# Altium integrated library TI Amplifiers and Linear Operational Amplifier High Speed.IntLib: 1100 symbols (part 5 of 44)
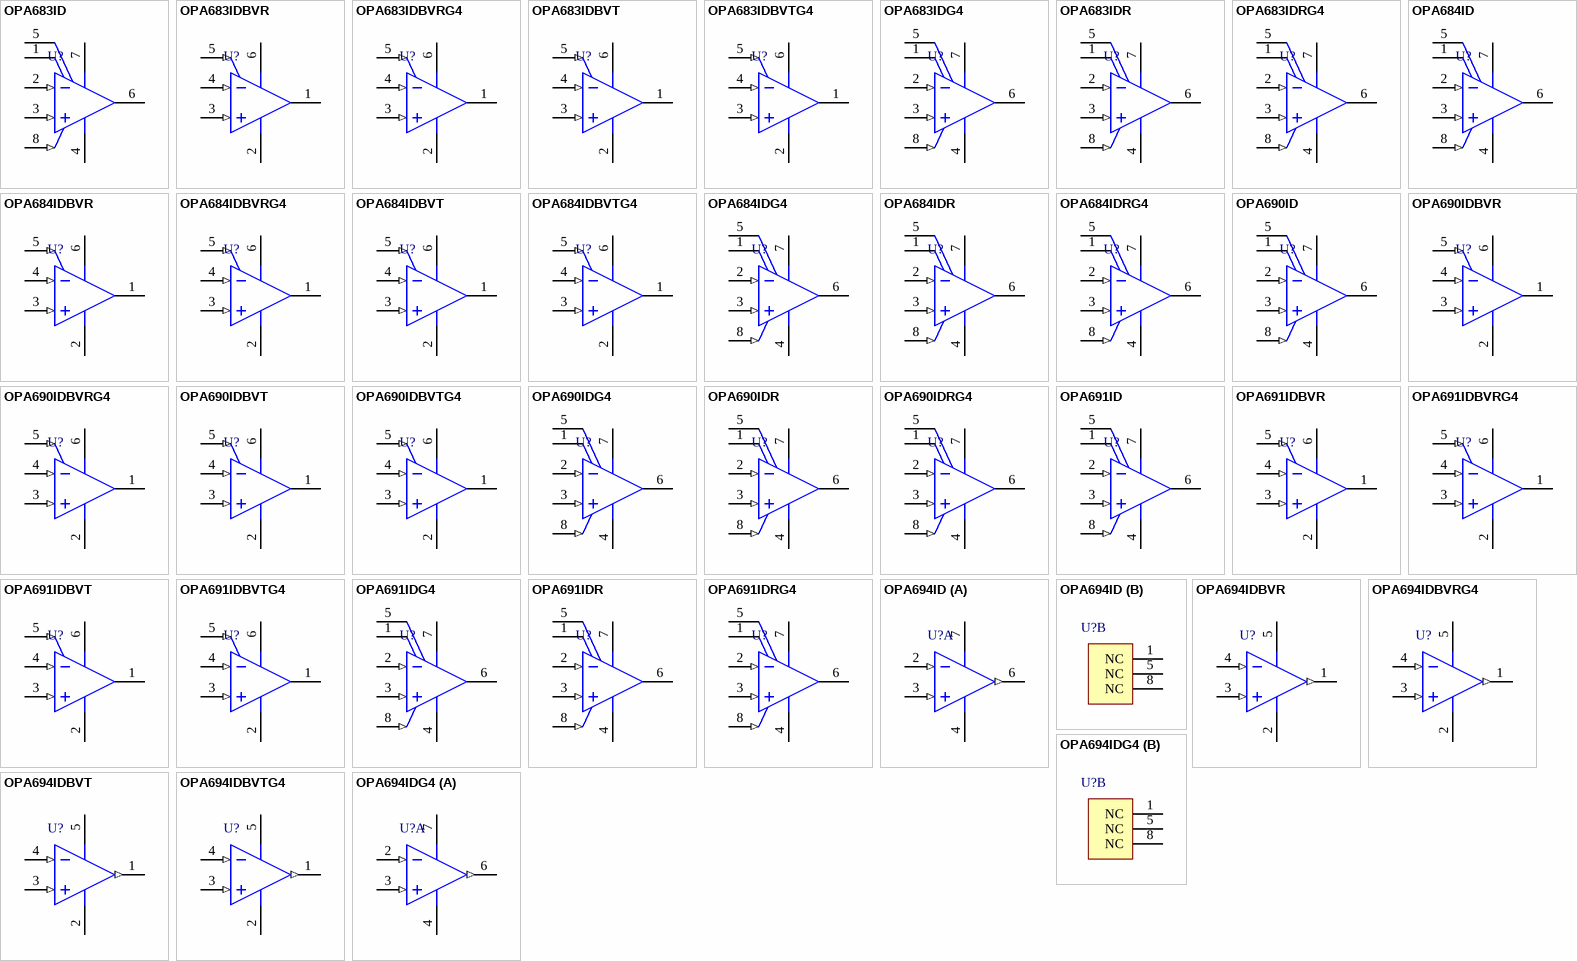
[diagram p55: symbols OPA683ID to OPA694IDG4]

## OPA690IDRG4
designator U?
Wideband, Voltage Feedback Operational Amplifier with Disable, 5 to 12 V, -40 to 85 degC, 8-pin SOIC (D8), Green (RoHS & no Sb/Br); Manufacturer: Texas Instruments; PartNumber: OPA690IDRG4; 2nd Harmonic(dBc): 77; 3rd Harmonic(dBc): 81; @ MHz: 5; Acl, min stable gain(V/V): 1; BW @ Acl(MHz): 500; Diff Gain(%): 0.06; Diff Phase(deg): 0.03; Iib(Max)(nA): 11000; Io(Typ)(mA): 190; Iq per channel(Max)(mA): 6.2; Settling Time (0.1%)(Typ)(ns): 8; Slew Rate(Typ)(V/us): 1800; Sub Family: High Output Current Amplifier (>=50mA), High Speed Amplifier (>=50MHz); THD (Fc is 1 MHz)(Typ)(dB): -80; Vio(Max)(mV): 4.5; Vs(Max)(V): 12; DatasheetVersion: SBOS223F; PackageVersion: 4040047-3/M, 06/2011; PackageReference: D8; PackageDescription: 8-Pin Plastic Small Outline, Body 4.9 x 3.9 mm, Pitch 1.27 mm; Supplier 1: Digi-Key; Supplier Part Number 1: OPA690IDRG4-ND; Supplier 2: Newark; Supplier Part Number 2: 67K8229; Supplier 3: Mouser; Supplier Part Number 3: 595-OPA690IDRG4; Eco-Plan: Green (RoHS & no Sb/Br); Number of Channels: 1; Vn at Flatband(Typ)(nV/rtHz): 4.5; Vs(Min)(V): 5; Mounting Technology: Surface Mount; Code_JEDEC: MS-012; ComponentLink1Description: Manufacturer URL; ComponentLink1URL: http://www.ti.com/; ComponentLink2Description: Datasheet; ComponentLink2URL: http://www.ti.com/general/docs/lit/getliterature.tsp?genericPartNumber=OPA690&fileType=pdf; ComponentLink3Description: Package Specification; ComponentLink3URL: http://www.ti.com/litv/pdf/msoi002j
footprint TI-D8_N (SOIC, 8-Leads, Body 4.9x3.9mm, Pitch 1.27mm, IPC Medium Density)
footprint TI-D8_L (SOIC, 8-Leads, Body 4.9x3.9mm, Pitch 1.27mm, IPC High Density)
footprint TI-D8_M (SOIC, 8-Leads, Body 4.9x3.9mm, Pitch 1.27mm, IPC Low Density)
pins: 1 NC, 2 IN- (in), 3 IN+ (in), 4 VS- (power), 5 NC, 6 OUT (hiz), 7 VS+ (power), 8 ~{DIS} (in)

## OPA691ID
designator U?
Wideband Current Feedback Operational Amplifier with Disable, 5 to 12 V, -40 to 85 degC, 8-pin SOIC (D8), Green (RoHS & no Sb/Br); Manufacturer: Texas Instruments; PartNumber: OPA691ID; 2nd Harmonic(dBc): 79; 3rd Harmonic(dBc): 93; @ MHz: 5; Acl, min stable gain(V/V): 1; BW @ Acl(MHz): 280; Diff Gain(%): 0.07; Diff Phase(deg): 0.02; Iib(Max)(nA): 45000; Io(Typ)(mA): 190; Iq per channel(Max)(mA): 4.5; Settling Time (0.1%)(Typ)(ns): 8; Slew Rate(Typ)(V/us): 2100; Sub Family: High Output Current Amplifier (>=50mA), High Speed Amplifier (>=50MHz); THD (Fc is 1 MHz)(Typ)(dB): -80; Vio(Max)(mV): 2.5; Vn at Flatband(Typ)(nV/rtHz): 1.7; Vs(Max)(V): 12; DatasheetVersion: SBOS226D; PackageVersion: 4040047-3/M, 06/2011; PackageReference: D8; PackageDescription: 8-Pin Plastic Small Outline, Body 4.9 x 3.9 mm, Pitch 1.27 mm; Supplier 1: Digi-Key; Supplier Part Number 1: OPA691ID-ND; Supplier 2: Newark; Supplier Part Number 2: 75C5194; Supplier 3: Mouser; Supplier Part Number 3: 595-OPA691ID; Eco-Plan: Green (RoHS & no Sb/Br); Number of Channels: 1; Vs(Min)(V): 5; Mounting Technology: Surface Mount; Code_JEDEC: MS-012; ComponentLink1Description: Manufacturer URL; ComponentLink1URL: http://www.ti.com/; ComponentLink2Description: Datasheet; ComponentLink2URL: http://www.ti.com/general/docs/lit/getliterature.tsp?genericPartNumber=OPA691&fileType=pdf; ComponentLink3Description: Package Specification; ComponentLink3URL: http://www.ti.com/litv/pdf/msoi002j
footprint TI-D8_N (SOIC, 8-Leads, Body 4.9x3.9mm, Pitch 1.27mm, IPC Medium Density)
footprint TI-D8_L (SOIC, 8-Leads, Body 4.9x3.9mm, Pitch 1.27mm, IPC High Density)
footprint TI-D8_M (SOIC, 8-Leads, Body 4.9x3.9mm, Pitch 1.27mm, IPC Low Density)
pins: 1 NC, 2 IN- (in), 3 IN+ (in), 4 VS- (power), 5 NC, 6 OUT (hiz), 7 VS+ (power), 8 ~{DIS} (in)

## OPA691IDBVR
designator U?
Wideband Current Feedback Operational Amplifier with Disable, 5 to 12 V, -40 to 85 degC, 6-pin SOT23 (DBV6), Green (RoHS & no Sb/Br); Manufacturer: Texas Instruments; PartNumber: OPA691IDBVR; 2nd Harmonic(dBc): 79; 3rd Harmonic(dBc): 93; @ MHz: 5; Acl, min stable gain(V/V): 1; BW @ Acl(MHz): 280; Diff Gain(%): 0.07; Diff Phase(deg): 0.02; Iib(Max)(nA): 45000; Io(Typ)(mA): 190; Iq per channel(Max)(mA): 4.5; Settling Time (0.1%)(Typ)(ns): 8; Slew Rate(Typ)(V/us): 2100; Sub Family: High Output Current Amplifier (>=50mA), High Speed Amplifier (>=50MHz); THD (Fc is 1 MHz)(Typ)(dB): -80; Vio(Max)(mV): 2.5; Vn at Flatband(Typ)(nV/rtHz): 1.7; Vs(Max)(V): 12; DatasheetVersion: SBOS226D; PackageVersion: 4073253-5/K, 03/2006; PackageReference: DBV6; PackageDescription: 6-Pin Plastic Small Outline, Body 1.6 x 2.9 mm, Pitch 0.95 mm; Supplier 1: Digi-Key; Supplier Part Number 1: OPA691IDBVR-ND; Supplier 2: Newark; Supplier Part Number 2: 75C5195; Supplier 3: Mouser; Supplier Part Number 3: 595-OPA691IDBVR; Eco-Plan: Green (RoHS & no Sb/Br); Number of Channels: 1; Vs(Min)(V): 5; Mounting Technology: Surface Mount; Code_JEDEC: MO-178; ComponentLink1Description: Manufacturer URL; ComponentLink1URL: http://www.ti.com/; ComponentLink2Description: Datasheet; ComponentLink2URL: http://www.ti.com/general/docs/lit/getliterature.tsp?genericPartNumber=OPA691&fileType=pdf; ComponentLink3Description: Package Specification; ComponentLink3URL: http://www.ti.com/litv/pdf/mpds026h
footprint TI-DBV6_N (SOT23, 6-Leads, Body 2.9x1.6mm, Pitch 0.95mm, IPC Medium Density)
footprint TI-DBV6_L (SOT23, 6-Leads, Body 2.9x1.6mm, Pitch 0.95mm, IPC High Density)
footprint TI-DBV6_M (SOT23, 6-Leads, Body 2.9x1.6mm, Pitch 0.95mm, IPC Low Density)
pins: 1 OUT (hiz), 2 VS- (power), 3 IN+ (in), 4 IN- (in), 5 ~{DIS} (in), 6 VS+ (power)

## OPA691IDBVRG4
designator U?
Wideband Current Feedback Operational Amplifier with Disable, 5 to 12 V, -40 to 85 degC, 6-pin SOT23 (DBV6), Green (RoHS & no Sb/Br); Manufacturer: Texas Instruments; PartNumber: OPA691IDBVRG4; 2nd Harmonic(dBc): 79; 3rd Harmonic(dBc): 93; @ MHz: 5; Acl, min stable gain(V/V): 1; BW @ Acl(MHz): 280; Diff Gain(%): 0.07; Diff Phase(deg): 0.02; Iib(Max)(nA): 45000; Io(Typ)(mA): 190; Iq per channel(Max)(mA): 4.5; Settling Time (0.1%)(Typ)(ns): 8; Slew Rate(Typ)(V/us): 2100; Sub Family: High Output Current Amplifier (>=50mA), High Speed Amplifier (>=50MHz); THD (Fc is 1 MHz)(Typ)(dB): -80; Vio(Max)(mV): 2.5; Vn at Flatband(Typ)(nV/rtHz): 1.7; Vs(Max)(V): 12; DatasheetVersion: SBOS226D; PackageVersion: 4073253-5/K, 03/2006; PackageReference: DBV6; PackageDescription: 6-Pin Plastic Small Outline, Body 1.6 x 2.9 mm, Pitch 0.95 mm; Supplier 1: Digi-Key; Supplier Part Number 1: OPA691IDBVRG4-ND; Supplier 2: Mouser; Supplier Part Number 2: 595-OPA691IDBVRG4; Eco-Plan: Green (RoHS & no Sb/Br); Number of Channels: 1; Vs(Min)(V): 5; Mounting Technology: Surface Mount; Code_JEDEC: MO-178; ComponentLink1Description: Manufacturer URL; ComponentLink1URL: http://www.ti.com/; ComponentLink2Description: Datasheet; ComponentLink2URL: http://www.ti.com/general/docs/lit/getliterature.tsp?genericPartNumber=OPA691&fileType=pdf; ComponentLink3Description: Package Specification; ComponentLink3URL: http://www.ti.com/litv/pdf/mpds026h
footprint TI-DBV6_N (SOT23, 6-Leads, Body 2.9x1.6mm, Pitch 0.95mm, IPC Medium Density)
footprint TI-DBV6_L (SOT23, 6-Leads, Body 2.9x1.6mm, Pitch 0.95mm, IPC High Density)
footprint TI-DBV6_M (SOT23, 6-Leads, Body 2.9x1.6mm, Pitch 0.95mm, IPC Low Density)
pins: 1 OUT (hiz), 2 VS- (power), 3 IN+ (in), 4 IN- (in), 5 ~{DIS} (in), 6 VS+ (power)

## OPA691IDBVT
designator U?
Wideband Current Feedback Operational Amplifier with Disable, 5 to 12 V, -40 to 85 degC, 6-pin SOT23 (DBV6), Green (RoHS & no Sb/Br); Manufacturer: Texas Instruments; PartNumber: OPA691IDBVT; 2nd Harmonic(dBc): 79; 3rd Harmonic(dBc): 93; @ MHz: 5; Acl, min stable gain(V/V): 1; BW @ Acl(MHz): 280; Diff Gain(%): 0.07; Diff Phase(deg): 0.02; Iib(Max)(nA): 45000; Io(Typ)(mA): 190; Iq per channel(Max)(mA): 4.5; Settling Time (0.1%)(Typ)(ns): 8; Slew Rate(Typ)(V/us): 2100; Sub Family: High Output Current Amplifier (>=50mA), High Speed Amplifier (>=50MHz); THD (Fc is 1 MHz)(Typ)(dB): -80; Vio(Max)(mV): 2.5; Vn at Flatband(Typ)(nV/rtHz): 1.7; Vs(Max)(V): 12; DatasheetVersion: SBOS226D; PackageVersion: 4073253-5/K, 03/2006; PackageReference: DBV6; PackageDescription: 6-Pin Plastic Small Outline, Body 1.6 x 2.9 mm, Pitch 0.95 mm; Supplier 1: Digi-Key; Supplier Part Number 1: OPA691IDBVTTR-ND; Supplier 2: Digi-Key; Supplier Part Number 2: OPA691IDBVTCT-ND; Supplier 3: Digi-Key; Supplier Part Number 3: OPA691IDBVTDKR-ND; Supplier 4: Newark; Supplier Part Number 4: 75C5196; Supplier 5: Mouser; Supplier Part Number 5: 595-OPA691IDBVT; Eco-Plan: Green (RoHS & no Sb/Br); Number of Channels: 1; Vs(Min)(V): 5; Mounting Technology: Surface Mount; Code_JEDEC: MO-178; ComponentLink1Description: Manufacturer URL; ComponentLink1URL: http://www.ti.com/; ComponentLink2Description: Datasheet; ComponentLink2URL: http://www.ti.com/general/docs/lit/getliterature.tsp?genericPartNumber=OPA691&fileType=pdf; ComponentLink3Description: Package Specification; ComponentLink3URL: http://www.ti.com/litv/pdf/mpds026h
footprint TI-DBV6_N (SOT23, 6-Leads, Body 2.9x1.6mm, Pitch 0.95mm, IPC Medium Density)
footprint TI-DBV6_L (SOT23, 6-Leads, Body 2.9x1.6mm, Pitch 0.95mm, IPC High Density)
footprint TI-DBV6_M (SOT23, 6-Leads, Body 2.9x1.6mm, Pitch 0.95mm, IPC Low Density)
pins: 1 OUT (hiz), 2 VS- (power), 3 IN+ (in), 4 IN- (in), 5 ~{DIS} (in), 6 VS+ (power)

## OPA691IDBVTG4
designator U?
Wideband Current Feedback Operational Amplifier with Disable, 5 to 12 V, -40 to 85 degC, 6-pin SOT23 (DBV6), Green (RoHS & no Sb/Br); Manufacturer: Texas Instruments; PartNumber: OPA691IDBVTG4; 2nd Harmonic(dBc): 79; 3rd Harmonic(dBc): 93; @ MHz: 5; Acl, min stable gain(V/V): 1; BW @ Acl(MHz): 280; Diff Gain(%): 0.07; Diff Phase(deg): 0.02; Iib(Max)(nA): 45000; Io(Typ)(mA): 190; Iq per channel(Max)(mA): 5.7; Settling Time (0.1%)(Typ)(ns): 8; Slew Rate(Typ)(V/us): 2100; Sub Family: High Output Current Amplifier (>=50mA), High Speed Amplifier (>=50MHz); THD (Fc is 1 MHz)(Typ)(dB): -80; Vio(Max)(mV): 3.9; Vn at Flatband(Typ)(nV/rtHz): 3.1; Vs(Max)(V): 12; DatasheetVersion: SBOS226D; PackageVersion: 4073253-5/K, 03/2006; PackageReference: DBV6; PackageDescription: 6-Pin Plastic Small Outline, Body 1.6 x 2.9 mm, Pitch 0.95 mm; Supplier 1: Digi-Key; Supplier Part Number 1: OPA691IDBVTG4-ND; Supplier 2: Farnell; Supplier Part Number 2: 1207071; Supplier 3: Newark; Supplier Part Number 3: 97K6858; Supplier 4: Mouser; Supplier Part Number 4: 595-OPA691IDBVTG4; Eco-Plan: Green (RoHS & no Sb/Br); Number of Channels: 1; Vs(Min)(V): 5; Mounting Technology: Surface Mount; Code_JEDEC: MO-178; ComponentLink1Description: Manufacturer URL; ComponentLink1URL: http://www.ti.com/; ComponentLink2Description: Datasheet; ComponentLink2URL: http://www.ti.com/general/docs/lit/getliterature.tsp?genericPartNumber=OPA691&fileType=pdf; ComponentLink3Description: Package Specification; ComponentLink3URL: http://www.ti.com/litv/pdf/mpds026h
footprint TI-DBV6_N (SOT23, 6-Leads, Body 2.9x1.6mm, Pitch 0.95mm, IPC Medium Density)
footprint TI-DBV6_L (SOT23, 6-Leads, Body 2.9x1.6mm, Pitch 0.95mm, IPC High Density)
footprint TI-DBV6_M (SOT23, 6-Leads, Body 2.9x1.6mm, Pitch 0.95mm, IPC Low Density)
pins: 1 OUT (hiz), 2 VS- (power), 3 IN+ (in), 4 IN- (in), 5 ~{DIS} (in), 6 VS+ (power)

## OPA691IDG4
designator U?
Wideband Current Feedback Operational Amplifier with Disable, 5 to 12 V, -40 to 85 degC, 8-pin SOIC (D8), Green (RoHS & no Sb/Br); Manufacturer: Texas Instruments; PartNumber: OPA691IDG4; 2nd Harmonic(dBc): 79; 3rd Harmonic(dBc): 93; @ MHz: 5; Acl, min stable gain(V/V): 1; BW @ Acl(MHz): 280; Diff Gain(%): 0.07; Diff Phase(deg): 0.02; Iib(Max)(nA): 45000; Io(Typ)(mA): 190; Iq per channel(Max)(mA): 4.5; Settling Time (0.1%)(Typ)(ns): 8; Slew Rate(Typ)(V/us): 2100; Sub Family: High Output Current Amplifier (>=50mA), High Speed Amplifier (>=50MHz); THD (Fc is 1 MHz)(Typ)(dB): -80; Vio(Max)(mV): 2.5; Vn at Flatband(Typ)(nV/rtHz): 1.7; Vs(Max)(V): 12; DatasheetVersion: SBOS226D; PackageVersion: 4040047-3/M, 06/2011; PackageReference: D8; PackageDescription: 8-Pin Plastic Small Outline, Body 4.9 x 3.9 mm, Pitch 1.27 mm; Supplier 1: Digi-Key; Supplier Part Number 1: OPA691IDG4-ND; Supplier 2: Farnell; Supplier Part Number 2: 1207070; Supplier 3: Newark; Supplier Part Number 3: 97K6859; Supplier 4: Mouser; Supplier Part Number 4: 595-OPA691IDG4; Eco-Plan: Green (RoHS & no Sb/Br); Number of Channels: 1; Vs(Min)(V): 5; Mounting Technology: Surface Mount; Code_JEDEC: MS-012; ComponentLink1Description: Manufacturer URL; ComponentLink1URL: http://www.ti.com/; ComponentLink2Description: Datasheet; ComponentLink2URL: http://www.ti.com/general/docs/lit/getliterature.tsp?genericPartNumber=OPA691&fileType=pdf; ComponentLink3Description: Package Specification; ComponentLink3URL: http://www.ti.com/litv/pdf/msoi002j
footprint TI-D8_N (SOIC, 8-Leads, Body 4.9x3.9mm, Pitch 1.27mm, IPC Medium Density)
footprint TI-D8_L (SOIC, 8-Leads, Body 4.9x3.9mm, Pitch 1.27mm, IPC High Density)
footprint TI-D8_M (SOIC, 8-Leads, Body 4.9x3.9mm, Pitch 1.27mm, IPC Low Density)
pins: 1 NC, 2 IN- (in), 3 IN+ (in), 4 VS- (power), 5 NC, 6 OUT (hiz), 7 VS+ (power), 8 ~{DIS} (in)

## OPA691IDR
designator U?
Wideband Current Feedback Operational Amplifier with Disable, 5 to 12 V, -40 to 85 degC, 8-pin SOIC (D8), Green (RoHS & no Sb/Br); Manufacturer: Texas Instruments; PartNumber: OPA691IDR; 2nd Harmonic(dBc): 79; 3rd Harmonic(dBc): 93; @ MHz: 5; Acl, min stable gain(V/V): 1; BW @ Acl(MHz): 280; Diff Gain(%): 0.07; Diff Phase(deg): 0.02; Iib(Max)(nA): 45000; Io(Typ)(mA): 190; Iq per channel(Max)(mA): 4.5; Settling Time (0.1%)(Typ)(ns): 8; Slew Rate(Typ)(V/us): 2100; Sub Family: High Output Current Amplifier (>=50mA), High Speed Amplifier (>=50MHz); THD (Fc is 1 MHz)(Typ)(dB): -80; Vio(Max)(mV): 2.5; Vn at Flatband(Typ)(nV/rtHz): 1.7; Vs(Max)(V): 12; DatasheetVersion: SBOS226D; PackageVersion: 4040047-3/M, 06/2011; PackageReference: D8; PackageDescription: 8-Pin Plastic Small Outline, Body 4.9 x 3.9 mm, Pitch 1.27 mm; Supplier 1: Digi-Key; Supplier Part Number 1: OPA691IDR-ND; Supplier 2: Mouser; Supplier Part Number 2: 595-OPA691IDR; Eco-Plan: Green (RoHS & no Sb/Br); Number of Channels: 1; Vs(Min)(V): 5; Mounting Technology: Surface Mount; Code_JEDEC: MS-012; ComponentLink1Description: Manufacturer URL; ComponentLink1URL: http://www.ti.com/; ComponentLink2Description: Datasheet; ComponentLink2URL: http://www.ti.com/general/docs/lit/getliterature.tsp?genericPartNumber=OPA691&fileType=pdf; ComponentLink3Description: Package Specification; ComponentLink3URL: http://www.ti.com/litv/pdf/msoi002j
footprint TI-D8_N (SOIC, 8-Leads, Body 4.9x3.9mm, Pitch 1.27mm, IPC Medium Density)
footprint TI-D8_L (SOIC, 8-Leads, Body 4.9x3.9mm, Pitch 1.27mm, IPC High Density)
footprint TI-D8_M (SOIC, 8-Leads, Body 4.9x3.9mm, Pitch 1.27mm, IPC Low Density)
pins: 1 NC, 2 IN- (in), 3 IN+ (in), 4 VS- (power), 5 NC, 6 OUT (hiz), 7 VS+ (power), 8 ~{DIS} (in)

## OPA691IDRG4
designator U?
Wideband Current Feedback Operational Amplifier with Disable, 5 to 12 V, -40 to 85 degC, 8-pin SOIC (D8), Green (RoHS & no Sb/Br); Manufacturer: Texas Instruments; PartNumber: OPA691IDRG4; 2nd Harmonic(dBc): 70; 3rd Harmonic(dBc): 74; @ MHz: 5; Acl, min stable gain(V/V): 1; BW @ Acl(MHz): 280; Diff Gain(%): 0.07; Diff Phase(deg): 0.02; Iib(Max)(nA): 45000; Io(Typ)(mA): 190; Iq per channel(Max)(mA): 4.5; Settling Time (0.1%)(Typ)(ns): 8; Slew Rate(Typ)(V/us): 2100; Sub Family: High Output Current Amplifier (>=50mA), High Speed Amplifier (>=50MHz); THD (Fc is 1 MHz)(Typ)(dB): -80; Vio(Max)(mV): 3.9; Vn at Flatband(Typ)(nV/rtHz): 2.5; Vs(Max)(V): 12; DatasheetVersion: SBOS226D; PackageVersion: 4040047-3/M, 06/2011; PackageReference: D8; PackageDescription: 8-Pin Plastic Small Outline, Body 4.9 x 3.9 mm, Pitch 1.27 mm; Supplier 1: Digi-Key; Supplier Part Number 1: OPA691IDRG4-ND; Supplier 2: Mouser; Supplier Part Number 2: 595-OPA691IDRG4; Eco-Plan: Green (RoHS & no Sb/Br); Number of Channels: 1; Vs(Min)(V): 5; Mounting Technology: Surface Mount; Code_JEDEC: MS-012; ComponentLink1Description: Manufacturer URL; ComponentLink1URL: http://www.ti.com/; ComponentLink2Description: Datasheet; ComponentLink2URL: http://www.ti.com/general/docs/lit/getliterature.tsp?genericPartNumber=OPA691&fileType=pdf; ComponentLink3Description: Package Specification; ComponentLink3URL: http://www.ti.com/litv/pdf/msoi002j
footprint TI-D8_N (SOIC, 8-Leads, Body 4.9x3.9mm, Pitch 1.27mm, IPC Medium Density)
footprint TI-D8_L (SOIC, 8-Leads, Body 4.9x3.9mm, Pitch 1.27mm, IPC High Density)
footprint TI-D8_M (SOIC, 8-Leads, Body 4.9x3.9mm, Pitch 1.27mm, IPC Low Density)
pins: 1 NC, 2 IN- (in), 3 IN+ (in), 4 VS- (power), 5 NC, 6 OUT (hiz), 7 VS+ (power), 8 ~{DIS} (in)

## OPA694ID
designator U?
WideBand, Low-Power, Current Feedback Amplifier, 7 to 12.6 V, -40 to 85 degC, 8-pin SOIC (D8), Green (RoHS & no Sb/Br); Manufacturer: Texas Instruments; PartNumber: OPA694ID; Acl, min stable gain(V/V): 1; BW @ Acl(MHz): 1500; Iib(Max)(nA): 18000; Io(Typ)(mA): 80; Iq per channel(Max)(mA): 5.8; Slew Rate(Typ)(V/us): 1700; Sub Family: High Output Current Amplifier (>=50mA), High Speed Amplifier (>=50MHz); Vio(Max)(mV): 3; Vn at Flatband(Typ)(nV/rtHz): 2.1; DatasheetVersion: SBOS319G; PackageVersion: 4040047-3/M, 06/2011; PackageReference: D8; PackageDescription: 8-Pin Plastic Small Outline, Body 4.9 x 3.9 mm, Pitch 1.27 mm; Supplier 1: Digi-Key; Supplier Part Number 1: 296-17507-5-ND; Supplier 2: Farnell; Supplier Part Number 2: 1459646; Supplier 3: Newark; Supplier Part Number 3: 61M8073; Supplier 4: Newark; Supplier Part Number 4: 65J6222; Supplier 5: Mouser; Supplier Part Number 5: 595-OPA694ID; Eco-Plan: Green (RoHS & no Sb/Br); Number of Channels: 1; Mounting Technology: Surface Mount; Code_JEDEC: MS-012; ComponentLink1Description: Manufacturer URL; ComponentLink1URL: http://www.ti.com/; ComponentLink2Description: Datasheet; ComponentLink2URL: http://www.ti.com/general/docs/lit/getliterature.tsp?genericPartNumber=OPA694&fileType=pdf; ComponentLink3Description: Package Specification; ComponentLink3URL: http://www.ti.com/litv/pdf/msoi002j
footprint TI-D8_N (SOIC, 8-Leads, Body 4.9x3.9mm, Pitch 1.27mm, IPC Medium Density)
footprint TI-D8_L (SOIC, 8-Leads, Body 4.9x3.9mm, Pitch 1.27mm, IPC High Density)
footprint TI-D8_M (SOIC, 8-Leads, Body 4.9x3.9mm, Pitch 1.27mm, IPC Low Density)
part A pins: 2 IN- (in), 3 IN+ (in), 4 VS- (power), 6 OUT (out), 7 VS+ (power)
part B pins: 1 NC, 5 NC, 8 NC

## OPA694IDBVR
designator U?
WideBand, Low-Power, Current Feedback Amplifier, 7 to 12.6 V, -40 to 85 degC, 5-pin SOT23 (DBV5), Green (RoHS & no Sb/Br); Manufacturer: Texas Instruments; PartNumber: OPA694IDBVR; Acl, min stable gain(V/V): 1; BW @ Acl(MHz): 1500; Iib(Max)(nA): 18000; Io(Typ)(mA): 80; Iq per channel(Max)(mA): 5.8; Slew Rate(Typ)(V/us): 1700; Sub Family: High Output Current Amplifier (>=50mA), High Speed Amplifier (>=50MHz); Vio(Max)(mV): 3; Vn at Flatband(Typ)(nV/rtHz): 2.1; DatasheetVersion: SBOS319G; PackageVersion: 4073253-4/K, 03/2006; PackageReference: DBV5; PackageDescription: 5-Pin Plastic Small Outline, Body 1.6 x 2.9 mm, Pitch 0.95 mm; Supplier 1: Digi-Key; Supplier Part Number 1: OPA694IDBVR-ND; Supplier 2: Mouser; Supplier Part Number 2: 595-OPA694IDBVR; Eco-Plan: Green (RoHS & no Sb/Br); Number of Channels: 1; Mounting Technology: Surface Mount; Code_JEDEC: MO-178; ComponentLink1Description: Manufacturer URL; ComponentLink1URL: http://www.ti.com/; ComponentLink2Description: Datasheet; ComponentLink2URL: http://www.ti.com/general/docs/lit/getliterature.tsp?genericPartNumber=OPA694&fileType=pdf; ComponentLink3Description: Package Specification; ComponentLink3URL: http://www.ti.com/litv/pdf/mpds018i
footprint TI-DBV5_N (SOT23, 5-Leads, Body 2.9x1.6mm, Pitch 0.95mm, IPC Medium Density)
footprint TI-DBV5_L (SOT23, 5-Leads, Body 2.9x1.6mm, Pitch 0.95mm, IPC High Density)
footprint TI-DBV5_M (SOT23, 5-Leads, Body 2.9x1.6mm, Pitch 0.95mm, IPC Low Density)
pins: 1 OUT (out), 2 VS- (power), 3 IN+ (in), 4 IN- (in), 5 VS+ (power)

## OPA694IDBVRG4
designator U?
WideBand, Low-Power, Current Feedback Amplifier, 7 to 12.6 V, -40 to 85 degC, 5-pin SOT23 (DBV5), Green (RoHS & no Sb/Br); Manufacturer: Texas Instruments; PartNumber: OPA694IDBVRG4; Acl, min stable gain(V/V): 1; BW @ Acl(MHz): 1500; Iib(Max)(nA): 18000; Io(Typ)(mA): 80; Iq per channel(Max)(mA): 5.8; Slew Rate(Typ)(V/us): 1700; Sub Family: High Output Current Amplifier (>=50mA), High Speed Amplifier (>=50MHz); Vio(Max)(mV): 3; Vn at Flatband(Typ)(nV/rtHz): 2.1; DatasheetVersion: SBOS319G; PackageVersion: 4073253-4/K, 03/2006; PackageReference: DBV5; PackageDescription: 5-Pin Plastic Small Outline, Body 1.6 x 2.9 mm, Pitch 0.95 mm; Supplier 1: Digi-Key; Supplier Part Number 1: OPA694IDBVRG4-ND; Supplier 2: Mouser; Supplier Part Number 2: 595-OPA694IDBVRG4; Eco-Plan: Green (RoHS & no Sb/Br); Number of Channels: 1; Mounting Technology: Surface Mount; Code_JEDEC: MO-178; ComponentLink1Description: Manufacturer URL; ComponentLink1URL: http://www.ti.com/; ComponentLink2Description: Datasheet; ComponentLink2URL: http://www.ti.com/general/docs/lit/getliterature.tsp?genericPartNumber=OPA694&fileType=pdf; ComponentLink3Description: Package Specification; ComponentLink3URL: http://www.ti.com/litv/pdf/mpds018i
footprint TI-DBV5_N (SOT23, 5-Leads, Body 2.9x1.6mm, Pitch 0.95mm, IPC Medium Density)
footprint TI-DBV5_L (SOT23, 5-Leads, Body 2.9x1.6mm, Pitch 0.95mm, IPC High Density)
footprint TI-DBV5_M (SOT23, 5-Leads, Body 2.9x1.6mm, Pitch 0.95mm, IPC Low Density)
pins: 1 OUT (out), 2 VS- (power), 3 IN+ (in), 4 IN- (in), 5 VS+ (power)

## OPA694IDBVT
designator U?
WideBand, Low-Power, Current Feedback Amplifier, 7 to 12.6 V, -40 to 85 degC, 5-pin SOT23 (DBV5), Green (RoHS & no Sb/Br); Manufacturer: Texas Instruments; PartNumber: OPA694IDBVT; Acl, min stable gain(V/V): 1; BW @ Acl(MHz): 1500; Iib(Max)(nA): 18000; Io(Typ)(mA): 80; Iq per channel(Max)(mA): 5.8; Slew Rate(Typ)(V/us): 1700; Sub Family: High Output Current Amplifier (>=50mA), High Speed Amplifier (>=50MHz); Vio(Max)(mV): 3; Vn at Flatband(Typ)(nV/rtHz): 2.1; DatasheetVersion: SBOS319G; PackageVersion: 4073253-4/K, 03/2006; PackageReference: DBV5; PackageDescription: 5-Pin Plastic Small Outline, Body 1.6 x 2.9 mm, Pitch 0.95 mm; Supplier 1: Digi-Key; Supplier Part Number 1: 296-17503-2-ND; Supplier 2: Digi-Key; Supplier Part Number 2: 296-17503-1-ND; Supplier 3: Digi-Key; Supplier Part Number 3: 296-17503-6-ND; Supplier 4: Newark; Supplier Part Number 4: 65J6224; Supplier 5: Mouser; Supplier Part Number 5: 595-OPA694IDBVT; Eco-Plan: Green (RoHS & no Sb/Br); Number of Channels: 1; Mounting Technology: Surface Mount; Code_JEDEC: MO-178; ComponentLink1Description: Manufacturer URL; ComponentLink1URL: http://www.ti.com/; ComponentLink2Description: Datasheet; ComponentLink2URL: http://www.ti.com/general/docs/lit/getliterature.tsp?genericPartNumber=OPA694&fileType=pdf; ComponentLink3Description: Package Specification; ComponentLink3URL: http://www.ti.com/litv/pdf/mpds018i
footprint TI-DBV5_N (SOT23, 5-Leads, Body 2.9x1.6mm, Pitch 0.95mm, IPC Medium Density)
footprint TI-DBV5_L (SOT23, 5-Leads, Body 2.9x1.6mm, Pitch 0.95mm, IPC High Density)
footprint TI-DBV5_M (SOT23, 5-Leads, Body 2.9x1.6mm, Pitch 0.95mm, IPC Low Density)
pins: 1 OUT (out), 2 VS- (power), 3 IN+ (in), 4 IN- (in), 5 VS+ (power)

## OPA694IDBVTG4
designator U?
WideBand, Low-Power, Current Feedback Amplifier, 7 to 12.6 V, -40 to 85 degC, 5-pin SOT23 (DBV5), Green (RoHS & no Sb/Br); Manufacturer: Texas Instruments; PartNumber: OPA694IDBVTG4; Acl, min stable gain(V/V): 1; BW @ Acl(MHz): 1500; Iib(Max)(nA): 18000; Io(Typ)(mA): 80; Iq per channel(Max)(mA): 5.8; Slew Rate(Typ)(V/us): 1700; Sub Family: High Output Current Amplifier (>=50mA), High Speed Amplifier (>=50MHz); Vio(Max)(mV): 3; Vn at Flatband(Typ)(nV/rtHz): 2.1; DatasheetVersion: SBOS319G; PackageVersion: 4073253-4/K, 03/2006; PackageReference: DBV5; PackageDescription: 5-Pin Plastic Small Outline, Body 1.6 x 2.9 mm, Pitch 0.95 mm; Supplier 1: Digi-Key; Supplier Part Number 1: OPA694IDBVTG4-ND; Supplier 2: Newark; Supplier Part Number 2: 24K4695; Supplier 3: Mouser; Supplier Part Number 3: 595-OPA694IDBVTG4; Eco-Plan: Green (RoHS & no Sb/Br); Number of Channels: 1; Mounting Technology: Surface Mount; Code_JEDEC: MO-178; ComponentLink1Description: Manufacturer URL; ComponentLink1URL: http://www.ti.com/; ComponentLink2Description: Datasheet; ComponentLink2URL: http://www.ti.com/general/docs/lit/getliterature.tsp?genericPartNumber=OPA694&fileType=pdf; ComponentLink3Description: Package Specification; ComponentLink3URL: http://www.ti.com/litv/pdf/mpds018i
footprint TI-DBV5_N (SOT23, 5-Leads, Body 2.9x1.6mm, Pitch 0.95mm, IPC Medium Density)
footprint TI-DBV5_L (SOT23, 5-Leads, Body 2.9x1.6mm, Pitch 0.95mm, IPC High Density)
footprint TI-DBV5_M (SOT23, 5-Leads, Body 2.9x1.6mm, Pitch 0.95mm, IPC Low Density)
pins: 1 OUT (out), 2 VS- (power), 3 IN+ (in), 4 IN- (in), 5 VS+ (power)

## OPA694IDG4
designator U?
WideBand, Low-Power, Current Feedback Amplifier, 7 to 12.6 V, -40 to 85 degC, 8-pin SOIC (D8), Green (RoHS & no Sb/Br); Manufacturer: Texas Instruments; PartNumber: OPA694IDG4; Acl, min stable gain(V/V): 1; BW @ Acl(MHz): 1500; Iib(Max)(nA): 18000; Io(Typ)(mA): 80; Iq per channel(Max)(mA): 5.8; Slew Rate(Typ)(V/us): 1700; Sub Family: High Output Current Amplifier (>=50mA), High Speed Amplifier (>=50MHz); Vio(Max)(mV): 3; Vn at Flatband(Typ)(nV/rtHz): 2.1; DatasheetVersion: SBOS319G; PackageVersion: 4040047-3/M, 06/2011; PackageReference: D8; PackageDescription: 8-Pin Plastic Small Outline, Body 4.9 x 3.9 mm, Pitch 1.27 mm; Supplier 1: Digi-Key; Supplier Part Number 1: OPA694IDG4-ND; Supplier 2: Newark; Supplier Part Number 2: 03M9411; Supplier 3: Mouser; Supplier Part Number 3: 595-OPA694IDG4; Eco-Plan: Green (RoHS & no Sb/Br); Number of Channels: 1; Mounting Technology: Surface Mount; Code_JEDEC: MS-012; ComponentLink1Description: Manufacturer URL; ComponentLink1URL: http://www.ti.com/; ComponentLink2Description: Datasheet; ComponentLink2URL: http://www.ti.com/general/docs/lit/getliterature.tsp?genericPartNumber=OPA694&fileType=pdf; ComponentLink3Description: Package Specification; ComponentLink3URL: http://www.ti.com/litv/pdf/msoi002j
footprint TI-D8_N (SOIC, 8-Leads, Body 4.9x3.9mm, Pitch 1.27mm, IPC Medium Density)
footprint TI-D8_L (SOIC, 8-Leads, Body 4.9x3.9mm, Pitch 1.27mm, IPC High Density)
footprint TI-D8_M (SOIC, 8-Leads, Body 4.9x3.9mm, Pitch 1.27mm, IPC Low Density)
part A pins: 2 IN- (in), 3 IN+ (in), 4 VS- (power), 6 OUT (out), 7 VS+ (power)
part B pins: 1 NC, 5 NC, 8 NC

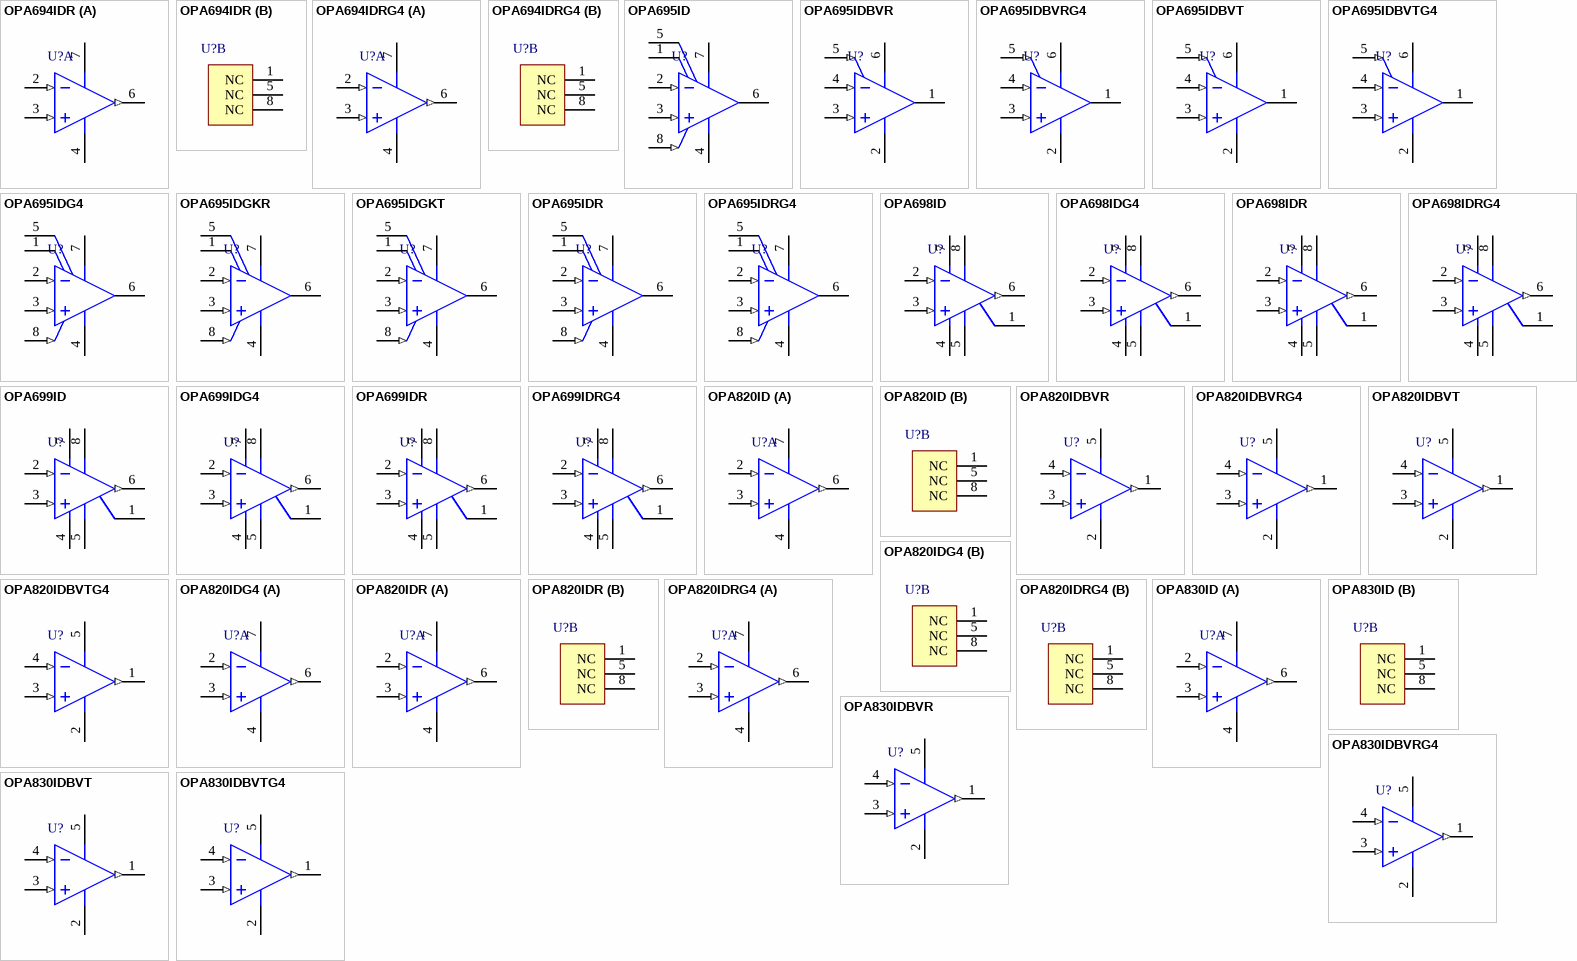
[diagram p4: symbols OPA694IDR to OPA830IDBVTG4]

## OPA694IDR
designator U?
WideBand, Low-Power, Current Feedback Amplifier, 7 to 12.6 V, -40 to 85 degC, 8-pin SOIC (D8), Green (RoHS & no Sb/Br); Manufacturer: Texas Instruments; PartNumber: OPA694IDR; Acl, min stable gain(V/V): 1; BW @ Acl(MHz): 1500; Iib(Max)(nA): 18000; Io(Typ)(mA): 80; Iq per channel(Max)(mA): 5.8; Slew Rate(Typ)(V/us): 1700; Sub Family: High Output Current Amplifier (>=50mA), High Speed Amplifier (>=50MHz); Vio(Max)(mV): 3; Vn at Flatband(Typ)(nV/rtHz): 2.1; DatasheetVersion: SBOS319G; PackageVersion: 4040047-3/M, 06/2011; PackageReference: D8; PackageDescription: 8-Pin Plastic Small Outline, Body 4.9 x 3.9 mm, Pitch 1.27 mm; Supplier 1: Digi-Key; Supplier Part Number 1: OPA694IDR-ND; Supplier 2: Mouser; Supplier Part Number 2: 595-OPA694IDR; Eco-Plan: Green (RoHS & no Sb/Br); Number of Channels: 1; Mounting Technology: Surface Mount; Code_JEDEC: MS-012; ComponentLink1Description: Manufacturer URL; ComponentLink1URL: http://www.ti.com/; ComponentLink2Description: Datasheet; ComponentLink2URL: http://www.ti.com/general/docs/lit/getliterature.tsp?genericPartNumber=OPA694&fileType=pdf; ComponentLink3Description: Package Specification; ComponentLink3URL: http://www.ti.com/litv/pdf/msoi002j
footprint TI-D8_N (SOIC, 8-Leads, Body 4.9x3.9mm, Pitch 1.27mm, IPC Medium Density)
footprint TI-D8_L (SOIC, 8-Leads, Body 4.9x3.9mm, Pitch 1.27mm, IPC High Density)
footprint TI-D8_M (SOIC, 8-Leads, Body 4.9x3.9mm, Pitch 1.27mm, IPC Low Density)
part A pins: 2 IN- (in), 3 IN+ (in), 4 VS- (power), 6 OUT (out), 7 VS+ (power)
part B pins: 1 NC, 5 NC, 8 NC

## OPA694IDRG4
designator U?
WideBand, Low-Power, Current Feedback Amplifier, 7 to 12.6 V, -40 to 85 degC, 8-pin SOIC (D8), Green (RoHS & no Sb/Br); Manufacturer: Texas Instruments; PartNumber: OPA694IDRG4; 2nd Harmonic(dBc): 68; 3rd Harmonic(dBc): 72; Acl, min stable gain(V/V): 1; BW @ Acl(MHz): 1500; Diff Gain(%): 0.03; Diff Phase(deg): 0.015; Iib(Max)(nA): 18000; Io(Typ)(mA): 80; Iq per channel(Max)(mA): 5.8; Settling Time (0.1%)(Typ)(ns): 13; Slew Rate(Typ)(V/us): 1700; Sub Family: High Output Current Amplifier (>=50mA), High Speed Amplifier (>=50MHz); Vio(Max)(mV): 4.1; Vn at Flatband(Typ)(nV/rtHz): 2.1; Vs(Max)(V): 12.6; Vs(Min)(V): 7; DatasheetVersion: SBOS319G; PackageVersion: 4040047-3/M, 06/2011; PackageReference: D8; PackageDescription: 8-Pin Plastic Small Outline, Body 4.9 x 3.9 mm, Pitch 1.27 mm; Supplier 1: Digi-Key; Supplier Part Number 1: OPA694IDRG4-ND; Supplier 2: Mouser; Supplier Part Number 2: 595-OPA694IDRG4; Eco-Plan: Green (RoHS & no Sb/Br); Number of Channels: 1; Mounting Technology: Surface Mount; Code_JEDEC: MS-012; ComponentLink1Description: Manufacturer URL; ComponentLink1URL: http://www.ti.com/; ComponentLink2Description: Datasheet; ComponentLink2URL: http://www.ti.com/general/docs/lit/getliterature.tsp?genericPartNumber=OPA694&fileType=pdf; ComponentLink3Description: Package Specification; ComponentLink3URL: http://www.ti.com/litv/pdf/msoi002j
footprint TI-D8_N (SOIC, 8-Leads, Body 4.9x3.9mm, Pitch 1.27mm, IPC Medium Density)
footprint TI-D8_L (SOIC, 8-Leads, Body 4.9x3.9mm, Pitch 1.27mm, IPC High Density)
footprint TI-D8_M (SOIC, 8-Leads, Body 4.9x3.9mm, Pitch 1.27mm, IPC Low Density)
part A pins: 2 IN- (in), 3 IN+ (in), 4 VS- (power), 6 OUT (out), 7 VS+ (power)
part B pins: 1 NC, 5 NC, 8 NC

## OPA695ID
designator U?
Ultra-Wideband, Current-Feedback Operational Amplifier with Disable, 5 to 12 V, -40 to 85 degC, 8-pin SOIC (D8), Green (RoHS & no Sb/Br); Manufacturer: Texas Instruments; PartNumber: OPA695ID; 2nd Harmonic(dBc): 78; 3rd Harmonic(dBc): 86; @ MHz: 10; Acl, min stable gain(V/V): 1; BW @ Acl(MHz): 1700; Diff Gain(%): 0.04; Diff Phase(deg): 0.007; Iib(Max)(nA): 41000; Io(Typ)(mA): 120; Iq per channel(Max)(mA): 12.9; Slew Rate(Typ)(V/us): 2900; Sub Family: High Output Current Amplifier (>=50mA), High Speed Amplifier (>=50MHz); THD (Fc is 1 MHz)(Typ)(dB): -88; Vio(Max)(mV): 3; Vn at Flatband(Typ)(nV/rtHz): 1.8; Vs(Max)(V): 12; Vs(Min)(V): 5; DatasheetVersion: SBOS293G; PackageVersion: 4040047-3/M, 06/2011; PackageReference: D8; PackageDescription: 8-Pin Plastic Small Outline, Body 4.9 x 3.9 mm, Pitch 1.27 mm; Supplier 1: Digi-Key; Supplier Part Number 1: 296-16756-5-ND; Supplier 2: Newark; Supplier Part Number 2: 90H2257; Supplier 3: Mouser; Supplier Part Number 3: 595-OPA695ID; Eco-Plan: Green (RoHS & no Sb/Br); Number of Channels: 1; Settling Time (0.1%)(Typ)(ns): 10; Mounting Technology: Surface Mount; Code_JEDEC: MS-012; ComponentLink1Description: Manufacturer URL; ComponentLink1URL: http://www.ti.com/; ComponentLink2Description: Datasheet; ComponentLink2URL: http://www.ti.com/general/docs/lit/getliterature.tsp?genericPartNumber=OPA695&fileType=pdf; ComponentLink3Description: Package Specification; ComponentLink3URL: http://www.ti.com/litv/pdf/msoi002j
footprint TI-D8_N (SOIC, 8-Leads, Body 4.9x3.9mm, Pitch 1.27mm, IPC Medium Density)
footprint TI-D8_L (SOIC, 8-Leads, Body 4.9x3.9mm, Pitch 1.27mm, IPC High Density)
footprint TI-D8_M (SOIC, 8-Leads, Body 4.9x3.9mm, Pitch 1.27mm, IPC Low Density)
pins: 1 NC, 2 IN- (in), 3 IN+ (in), 4 VS- (power), 5 NC, 6 OUT (hiz), 7 VS+ (power), 8 ~{DIS} (in)

## OPA695IDBVR
designator U?
Ultra-Wideband, Current-Feedback Operational Amplifier with Disable, 5 to 12 V, -40 to 85 degC, 6-pin SOT23 (DBV6), Green (RoHS & no Sb/Br); Manufacturer: Texas Instruments; PartNumber: OPA695IDBVR; 2nd Harmonic(dBc): 78; 3rd Harmonic(dBc): 86; @ MHz: 10; Acl, min stable gain(V/V): 1; BW @ Acl(MHz): 1700; Diff Gain(%): 0.04; Diff Phase(deg): 0.007; Iib(Max)(nA): 41000; Io(Typ)(mA): 120; Iq per channel(Max)(mA): 12.9; Slew Rate(Typ)(V/us): 2900; Sub Family: High Output Current Amplifier (>=50mA), High Speed Amplifier (>=50MHz); THD (Fc is 1 MHz)(Typ)(dB): -88; Vio(Max)(mV): 3; Vn at Flatband(Typ)(nV/rtHz): 1.8; Vs(Max)(V): 12; Vs(Min)(V): 5; DatasheetVersion: SBOS293G; PackageVersion: 4073253-5/K, 03/2006; PackageReference: DBV6; PackageDescription: 6-Pin Plastic Small Outline, Body 1.6 x 2.9 mm, Pitch 0.95 mm; Supplier 1: Digi-Key; Supplier Part Number 1: OPA695IDBVR-ND; Supplier 2: Newark; Supplier Part Number 2: 01J0612; Supplier 3: Mouser; Supplier Part Number 3: 595-OPA695IDBVR; Eco-Plan: Green (RoHS & no Sb/Br); Number of Channels: 1; Settling Time (0.1%)(Typ)(ns): 10; Mounting Technology: Surface Mount; Code_JEDEC: MO-178; ComponentLink1Description: Manufacturer URL; ComponentLink1URL: http://www.ti.com/; ComponentLink2Description: Datasheet; ComponentLink2URL: http://www.ti.com/general/docs/lit/getliterature.tsp?genericPartNumber=OPA695&fileType=pdf; ComponentLink3Description: Package Specification; ComponentLink3URL: http://www.ti.com/litv/pdf/mpds026h
footprint TI-DBV6_N (SOT23, 6-Leads, Body 2.9x1.6mm, Pitch 0.95mm, IPC Medium Density)
footprint TI-DBV6_L (SOT23, 6-Leads, Body 2.9x1.6mm, Pitch 0.95mm, IPC High Density)
footprint TI-DBV6_M (SOT23, 6-Leads, Body 2.9x1.6mm, Pitch 0.95mm, IPC Low Density)
pins: 1 OUT (hiz), 2 VS- (power), 3 IN+ (in), 4 IN- (in), 5 ~{DIS} (in), 6 VS+ (power)

## OPA695IDBVRG4
designator U?
Ultra-Wideband, Current-Feedback Operational Amplifier with Disable, 5 to 12 V, -40 to 85 degC, 6-pin SOT23 (DBV6), Green (RoHS & no Sb/Br); Manufacturer: Texas Instruments; PartNumber: OPA695IDBVRG4; 2nd Harmonic(dBc): 78; 3rd Harmonic(dBc): 86; @ MHz: 10; Acl, min stable gain(V/V): 1; BW @ Acl(MHz): 1700; Diff Gain(%): 0.04; Diff Phase(deg): 0.007; Iib(Max)(nA): 41000; Io(Typ)(mA): 120; Iq per channel(Max)(mA): 12.9; Slew Rate(Typ)(V/us): 2900; Sub Family: High Output Current Amplifier (>=50mA), High Speed Amplifier (>=50MHz); THD (Fc is 1 MHz)(Typ)(dB): -88; Vio(Max)(mV): 3; Vn at Flatband(Typ)(nV/rtHz): 1.8; Vs(Max)(V): 12; Vs(Min)(V): 5; DatasheetVersion: SBOS293G; PackageVersion: 4073253-5/K, 03/2006; PackageReference: DBV6; PackageDescription: 6-Pin Plastic Small Outline, Body 1.6 x 2.9 mm, Pitch 0.95 mm; Supplier 1: Digi-Key; Supplier Part Number 1: OPA695IDBVRG4-ND; Supplier 2: Newark; Supplier Part Number 2: 71J7139; Supplier 3: Mouser; Supplier Part Number 3: 595-OPA695IDBVRG4; Eco-Plan: Green (RoHS & no Sb/Br); Number of Channels: 1; Settling Time (0.1%)(Typ)(ns): 10; Mounting Technology: Surface Mount; Code_JEDEC: MO-178; ComponentLink1Description: Manufacturer URL; ComponentLink1URL: http://www.ti.com/; ComponentLink2Description: Datasheet; ComponentLink2URL: http://www.ti.com/general/docs/lit/getliterature.tsp?genericPartNumber=OPA695&fileType=pdf; ComponentLink3Description: Package Specification; ComponentLink3URL: http://www.ti.com/litv/pdf/mpds026h
footprint TI-DBV6_N (SOT23, 6-Leads, Body 2.9x1.6mm, Pitch 0.95mm, IPC Medium Density)
footprint TI-DBV6_L (SOT23, 6-Leads, Body 2.9x1.6mm, Pitch 0.95mm, IPC High Density)
footprint TI-DBV6_M (SOT23, 6-Leads, Body 2.9x1.6mm, Pitch 0.95mm, IPC Low Density)
pins: 1 OUT (hiz), 2 VS- (power), 3 IN+ (in), 4 IN- (in), 5 ~{DIS} (in), 6 VS+ (power)

## OPA695IDBVT
designator U?
Ultra-Wideband, Current-Feedback Operational Amplifier with Disable, 5 to 12 V, -40 to 85 degC, 6-pin SOT23 (DBV6), Green (RoHS & no Sb/Br); Manufacturer: Texas Instruments; PartNumber: OPA695IDBVT; 2nd Harmonic(dBc): 78; 3rd Harmonic(dBc): 86; @ MHz: 10; Acl, min stable gain(V/V): 1; BW @ Acl(MHz): 1700; Diff Gain(%): 0.04; Diff Phase(deg): 0.007; Iib(Max)(nA): 41000; Io(Typ)(mA): 120; Iq per channel(Max)(mA): 12.9; Slew Rate(Typ)(V/us): 2900; Sub Family: High Output Current Amplifier (>=50mA), High Speed Amplifier (>=50MHz); THD (Fc is 1 MHz)(Typ)(dB): -88; Vio(Max)(mV): 3; Vn at Flatband(Typ)(nV/rtHz): 1.8; Vs(Max)(V): 12; Vs(Min)(V): 5; DatasheetVersion: SBOS293G; PackageVersion: 4073253-5/K, 03/2006; PackageReference: DBV6; PackageDescription: 6-Pin Plastic Small Outline, Body 1.6 x 2.9 mm, Pitch 0.95 mm; Supplier 1: Digi-Key; Supplier Part Number 1: 296-16854-2-ND; Supplier 2: Digi-Key; Supplier Part Number 2: 296-16854-1-ND; Supplier 3: Digi-Key; Supplier Part Number 3: 296-16854-6-ND; Supplier 4: Newark; Supplier Part Number 4: 01J0613; Supplier 5: Mouser; Supplier Part Number 5: 595-OPA695IDBVT; Eco-Plan: Green (RoHS & no Sb/Br); Number of Channels: 1; Settling Time (0.1%)(Typ)(ns): 10; Mounting Technology: Surface Mount; Code_JEDEC: MO-178; ComponentLink1Description: Manufacturer URL; ComponentLink1URL: http://www.ti.com/; ComponentLink2Description: Datasheet; ComponentLink2URL: http://www.ti.com/general/docs/lit/getliterature.tsp?genericPartNumber=OPA695&fileType=pdf; ComponentLink3Description: Package Specification; ComponentLink3URL: http://www.ti.com/litv/pdf/mpds026h
footprint TI-DBV6_N (SOT23, 6-Leads, Body 2.9x1.6mm, Pitch 0.95mm, IPC Medium Density)
footprint TI-DBV6_L (SOT23, 6-Leads, Body 2.9x1.6mm, Pitch 0.95mm, IPC High Density)
footprint TI-DBV6_M (SOT23, 6-Leads, Body 2.9x1.6mm, Pitch 0.95mm, IPC Low Density)
pins: 1 OUT (hiz), 2 VS- (power), 3 IN+ (in), 4 IN- (in), 5 ~{DIS} (in), 6 VS+ (power)

## OPA695IDBVTG4
designator U?
Ultra-Wideband, Current-Feedback Operational Amplifier with Disable, 5 to 12 V, -40 to 85 degC, 6-pin SOT23 (DBV6), Green (RoHS & no Sb/Br); Manufacturer: Texas Instruments; PartNumber: OPA695IDBVTG4; 2nd Harmonic(dBc): 78; 3rd Harmonic(dBc): 86; @ MHz: 10; Acl, min stable gain(V/V): 1; BW @ Acl(MHz): 1700; Diff Gain(%): 0.04; Diff Phase(deg): 0.007; Iib(Max)(nA): 41000; Io(Typ)(mA): 120; Iq per channel(Max)(mA): 12.9; Slew Rate(Typ)(V/us): 2900; Sub Family: High Output Current Amplifier (>=50mA), High Speed Amplifier (>=50MHz); THD (Fc is 1 MHz)(Typ)(dB): -88; Vio(Max)(mV): 3; Vn at Flatband(Typ)(nV/rtHz): 1.8; Vs(Max)(V): 12; Vs(Min)(V): 5; DatasheetVersion: SBOS293G; PackageVersion: 4073253-5/K, 03/2006; PackageReference: DBV6; PackageDescription: 6-Pin Plastic Small Outline, Body 1.6 x 2.9 mm, Pitch 0.95 mm; Supplier 1: Digi-Key; Supplier Part Number 1: OPA695IDBVTG4-ND; Supplier 2: Farnell; Supplier Part Number 2: 1207075; Supplier 3: Newark; Supplier Part Number 3: 97K6862; Supplier 4: Newark; Supplier Part Number 4: 71J7140; Supplier 5: Mouser; Supplier Part Number 5: 595-OPA695IDBVTG4; Eco-Plan: Green (RoHS & no Sb/Br); Number of Channels: 1; Settling Time (0.1%)(Typ)(ns): 10; Mounting Technology: Surface Mount; Code_JEDEC: MO-178; ComponentLink1Description: Manufacturer URL; ComponentLink1URL: http://www.ti.com/; ComponentLink2Description: Datasheet; ComponentLink2URL: http://www.ti.com/general/docs/lit/getliterature.tsp?genericPartNumber=OPA695&fileType=pdf; ComponentLink3Description: Package Specification; ComponentLink3URL: http://www.ti.com/litv/pdf/mpds026h
footprint TI-DBV6_N (SOT23, 6-Leads, Body 2.9x1.6mm, Pitch 0.95mm, IPC Medium Density)
footprint TI-DBV6_L (SOT23, 6-Leads, Body 2.9x1.6mm, Pitch 0.95mm, IPC High Density)
footprint TI-DBV6_M (SOT23, 6-Leads, Body 2.9x1.6mm, Pitch 0.95mm, IPC Low Density)
pins: 1 OUT (hiz), 2 VS- (power), 3 IN+ (in), 4 IN- (in), 5 ~{DIS} (in), 6 VS+ (power)

## OPA695IDG4
designator U?
Ultra-Wideband, Current-Feedback Operational Amplifier with Disable, 5 to 12 V, -40 to 85 degC, 8-pin SOIC (D8), Green (RoHS & no Sb/Br); Manufacturer: Texas Instruments; PartNumber: OPA695IDG4; 2nd Harmonic(dBc): 78; 3rd Harmonic(dBc): 86; @ MHz: 10; Acl, min stable gain(V/V): 1; BW @ Acl(MHz): 1700; Diff Gain(%): 0.04; Diff Phase(deg): 0.007; Iib(Max)(nA): 41000; Io(Typ)(mA): 120; Iq per channel(Max)(mA): 12.9; Slew Rate(Typ)(V/us): 2900; Sub Family: High Output Current Amplifier (>=50mA), High Speed Amplifier (>=50MHz); THD (Fc is 1 MHz)(Typ)(dB): -88; Vio(Max)(mV): 3; Vn at Flatband(Typ)(nV/rtHz): 1.8; Vs(Max)(V): 12; Vs(Min)(V): 5; DatasheetVersion: SBOS293G; PackageVersion: 4040047-3/M, 06/2011; PackageReference: D8; PackageDescription: 8-Pin Plastic Small Outline, Body 4.9 x 3.9 mm, Pitch 1.27 mm; Supplier 1: Digi-Key; Supplier Part Number 1: OPA695IDG4-ND; Supplier 2: Farnell; Supplier Part Number 2: 1207074; Supplier 3: Newark; Supplier Part Number 3: 97K6863; Supplier 4: Mouser; Supplier Part Number 4: 595-OPA695IDG4; Eco-Plan: Green (RoHS & no Sb/Br); Number of Channels: 1; Settling Time (0.1%)(Typ)(ns): 10; Mounting Technology: Surface Mount; Code_JEDEC: MS-012; ComponentLink1Description: Manufacturer URL; ComponentLink1URL: http://www.ti.com/; ComponentLink2Description: Datasheet; ComponentLink2URL: http://www.ti.com/general/docs/lit/getliterature.tsp?genericPartNumber=OPA695&fileType=pdf; ComponentLink3Description: Package Specification; ComponentLink3URL: http://www.ti.com/litv/pdf/msoi002j
footprint TI-D8_N (SOIC, 8-Leads, Body 4.9x3.9mm, Pitch 1.27mm, IPC Medium Density)
footprint TI-D8_L (SOIC, 8-Leads, Body 4.9x3.9mm, Pitch 1.27mm, IPC High Density)
footprint TI-D8_M (SOIC, 8-Leads, Body 4.9x3.9mm, Pitch 1.27mm, IPC Low Density)
pins: 1 NC, 2 IN- (in), 3 IN+ (in), 4 VS- (power), 5 NC, 6 OUT (hiz), 7 VS+ (power), 8 ~{DIS} (in)

## OPA695IDGKR
designator U?
Ultra-Wideband, Current-Feedback Operational Amplifier with Disable, 5 to 12 V, -40 to 85 degC, 8-pin SOP (DGK8), Green (RoHS & no Sb/Br); Manufacturer: Texas Instruments; PartNumber: OPA695IDGKR; 2nd Harmonic(dBc): 78; 3rd Harmonic(dBc): 86; @ MHz: 10; Acl, min stable gain(V/V): 1; BW @ Acl(MHz): 1700; Diff Gain(%): 0.04; Diff Phase(deg): 0.007; Iib(Max)(nA): 41000; Io(Typ)(mA): 120; Iq per channel(Max)(mA): 12.9; Slew Rate(Typ)(V/us): 2900; Sub Family: High Output Current Amplifier (>=50mA), High Speed Amplifier (>=50MHz); THD (Fc is 1 MHz)(Typ)(dB): -88; Vio(Max)(mV): 3; Vn at Flatband(Typ)(nV/rtHz): 1.8; Vs(Max)(V): 12; Vs(Min)(V): 5; DatasheetVersion: SBOS293G; PackageVersion: 4073329/E, 05/2006; PackageReference: DGK8; PackageDescription: 8-Pin Thin Small Outline, Body 3 x 3 mm, Pitch 0.65 mm; Supplier 1: Digi-Key; Supplier Part Number 1: OPA695IDGKR-ND; Supplier 2: Newark; Supplier Part Number 2: 09R5038; Supplier 3: Mouser; Supplier Part Number 3: 595-OPA695IDGKR; Eco-Plan: Green (RoHS & no Sb/Br); Number of Channels: 1; Settling Time (0.1%)(Typ)(ns): 10; Mounting Technology: Surface Mount; Code_JEDEC: MO-187; ComponentLink1Description: Manufacturer URL; ComponentLink1URL: http://www.ti.com/; ComponentLink2Description: Datasheet; ComponentLink2URL: http://www.ti.com/general/docs/lit/getliterature.tsp?genericPartNumber=OPA695&fileType=pdf; ComponentLink3Description: Package Specification; ComponentLink3URL: http://www.ti.com/litv/pdf/mpds028d
footprint TI-DGK8_N (SOP, 8-Leads, Body 3x3mm, Pitch 0.65mm, IPC Medium Density)
footprint TI-DGK8_L (SOP, 8-Leads, Body 3x3mm, Pitch 0.65mm, IPC High Density)
footprint TI-DGK8_M (SOP, 8-Leads, Body 3x3mm, Pitch 0.65mm, IPC Low Density)
pins: 1 NC, 2 IN- (in), 3 IN+ (in), 4 VS- (power), 5 NC, 6 OUT (hiz), 7 VS+ (power), 8 ~{DIS} (in)

## OPA695IDGKT
designator U?
Ultra-Wideband, Current-Feedback Operational Amplifier with Disable, 5 to 12 V, -40 to 85 degC, 8-pin SOP (DGK8), Green (RoHS & no Sb/Br); Manufacturer: Texas Instruments; PartNumber: OPA695IDGKT; 2nd Harmonic(dBc): 78; 3rd Harmonic(dBc): 86; @ MHz: 10; Acl, min stable gain(V/V): 1; BW @ Acl(MHz): 1700; Diff Gain(%): 0.04; Diff Phase(deg): 0.007; Iib(Max)(nA): 41000; Io(Typ)(mA): 120; Iq per channel(Max)(mA): 12.9; Slew Rate(Typ)(V/us): 2900; Sub Family: High Output Current Amplifier (>=50mA), High Speed Amplifier (>=50MHz); THD (Fc is 1 MHz)(Typ)(dB): -88; Vio(Max)(mV): 3; Vn at Flatband(Typ)(nV/rtHz): 1.8; Vs(Max)(V): 12; Vs(Min)(V): 5; DatasheetVersion: SBOS293G; PackageVersion: 4073329/E, 05/2006; PackageReference: DGK8; PackageDescription: 8-Pin Thin Small Outline, Body 3 x 3 mm, Pitch 0.65 mm; Supplier 1: Digi-Key; Supplier Part Number 1: 296-24333-2-ND; Supplier 2: Digi-Key; Supplier Part Number 2: 296-24333-1-ND; Supplier 3: Digi-Key; Supplier Part Number 3: 296-24333-6-ND; Supplier 4: Newark; Supplier Part Number 4: 09R5039; Supplier 5: Mouser; Supplier Part Number 5: 595-OPA695IDGKT; Eco-Plan: Green (RoHS & no Sb/Br); Number of Channels: 1; Settling Time (0.1%)(Typ)(ns): 10; Mounting Technology: Surface Mount; Code_JEDEC: MO-187; ComponentLink1Description: Manufacturer URL; ComponentLink1URL: http://www.ti.com/; ComponentLink2Description: Datasheet; ComponentLink2URL: http://www.ti.com/general/docs/lit/getliterature.tsp?genericPartNumber=OPA695&fileType=pdf; ComponentLink3Description: Package Specification; ComponentLink3URL: http://www.ti.com/litv/pdf/mpds028d
footprint TI-DGK8_N (SOP, 8-Leads, Body 3x3mm, Pitch 0.65mm, IPC Medium Density)
footprint TI-DGK8_L (SOP, 8-Leads, Body 3x3mm, Pitch 0.65mm, IPC High Density)
footprint TI-DGK8_M (SOP, 8-Leads, Body 3x3mm, Pitch 0.65mm, IPC Low Density)
pins: 1 NC, 2 IN- (in), 3 IN+ (in), 4 VS- (power), 5 NC, 6 OUT (hiz), 7 VS+ (power), 8 ~{DIS} (in)

## OPA695IDR
designator U?
Ultra-Wideband, Current-Feedback Operational Amplifier with Disable, 5 to 12 V, -40 to 85 degC, 8-pin SOIC (D8), Green (RoHS & no Sb/Br); Manufacturer: Texas Instruments; PartNumber: OPA695IDR; 2nd Harmonic(dBc): 78; 3rd Harmonic(dBc): 86; @ MHz: 10; Acl, min stable gain(V/V): 1; BW @ Acl(MHz): 1700; Diff Gain(%): 0.04; Diff Phase(deg): 0.007; Iib(Max)(nA): 41000; Io(Typ)(mA): 120; Iq per channel(Max)(mA): 12.9; Slew Rate(Typ)(V/us): 2900; Sub Family: High Output Current Amplifier (>=50mA), High Speed Amplifier (>=50MHz); THD (Fc is 1 MHz)(Typ)(dB): -88; Vio(Max)(mV): 3; Vn at Flatband(Typ)(nV/rtHz): 1.8; Vs(Max)(V): 12; Vs(Min)(V): 5; DatasheetVersion: SBOS293G; PackageVersion: 4040047-3/M, 06/2011; PackageReference: D8; PackageDescription: 8-Pin Plastic Small Outline, Body 4.9 x 3.9 mm, Pitch 1.27 mm; Supplier 1: Digi-Key; Supplier Part Number 1: OPA695IDR-ND; Supplier 2: Mouser; Supplier Part Number 2: 595-OPA695IDR; Eco-Plan: Green (RoHS & no Sb/Br); Number of Channels: 1; Settling Time (0.1%)(Typ)(ns): 10; Mounting Technology: Surface Mount; Code_JEDEC: MS-012; ComponentLink1Description: Manufacturer URL; ComponentLink1URL: http://www.ti.com/; ComponentLink2Description: Datasheet; ComponentLink2URL: http://www.ti.com/general/docs/lit/getliterature.tsp?genericPartNumber=OPA695&fileType=pdf; ComponentLink3Description: Package Specification; ComponentLink3URL: http://www.ti.com/litv/pdf/msoi002j
footprint TI-D8_N (SOIC, 8-Leads, Body 4.9x3.9mm, Pitch 1.27mm, IPC Medium Density)
footprint TI-D8_L (SOIC, 8-Leads, Body 4.9x3.9mm, Pitch 1.27mm, IPC High Density)
footprint TI-D8_M (SOIC, 8-Leads, Body 4.9x3.9mm, Pitch 1.27mm, IPC Low Density)
pins: 1 NC, 2 IN- (in), 3 IN+ (in), 4 VS- (power), 5 NC, 6 OUT (hiz), 7 VS+ (power), 8 ~{DIS} (in)

## OPA695IDRG4
designator U?
Ultra-Wideband, Current-Feedback Operational Amplifier with Disable, 5 to 12 V, -40 to 85 degC, 8-pin SOIC (D8), Green (RoHS & no Sb/Br); Manufacturer: Texas Instruments; PartNumber: OPA695IDRG4; 2nd Harmonic(dBc): 78; 3rd Harmonic(dBc): 86; @ MHz: 10; Acl, min stable gain(V/V): 1; BW @ Acl(MHz): 1700; Diff Gain(%): 0.04; Diff Phase(deg): 0.007; Iib(Max)(nA): 70000; Io(Typ)(mA): 120; Iq per channel(Max)(mA): 12.9; Slew Rate(Typ)(V/us): 2900; Sub Family: High Output Current Amplifier (>=50mA), High Speed Amplifier (>=50MHz); THD (Fc is 1 MHz)(Typ)(dB): -88; Vio(Max)(mV): 3; Vn at Flatband(Typ)(nV/rtHz): 1.8; Vs(Max)(V): 12; Vs(Min)(V): 5; DatasheetVersion: SBOS293G; PackageVersion: 4040047-3/M, 06/2011; PackageReference: D8; PackageDescription: 8-Pin Plastic Small Outline, Body 4.9 x 3.9 mm, Pitch 1.27 mm; Supplier 1: Digi-Key; Supplier Part Number 1: OPA695IDRG4-ND; Supplier 2: Mouser; Supplier Part Number 2: 595-OPA695IDRG4; Eco-Plan: Green (RoHS & no Sb/Br); Number of Channels: 1; Settling Time (0.1%)(Typ)(ns): 10; Mounting Technology: Surface Mount; Code_JEDEC: MS-012; ComponentLink1Description: Manufacturer URL; ComponentLink1URL: http://www.ti.com/; ComponentLink2Description: Datasheet; ComponentLink2URL: http://www.ti.com/general/docs/lit/getliterature.tsp?genericPartNumber=OPA695&fileType=pdf; ComponentLink3Description: Package Specification; ComponentLink3URL: http://www.ti.com/litv/pdf/msoi002j
footprint TI-D8_N (SOIC, 8-Leads, Body 4.9x3.9mm, Pitch 1.27mm, IPC Medium Density)
footprint TI-D8_L (SOIC, 8-Leads, Body 4.9x3.9mm, Pitch 1.27mm, IPC High Density)
footprint TI-D8_M (SOIC, 8-Leads, Body 4.9x3.9mm, Pitch 1.27mm, IPC Low Density)
pins: 1 NC, 2 IN- (in), 3 IN+ (in), 4 VS- (power), 5 NC, 6 OUT (hiz), 7 VS+ (power), 8 ~{DIS} (in)